# Altium schematic symbol library Comparators.SchLib: 2 symbols
Pins are listed as number, name and electrical type; pins without a type are passive.

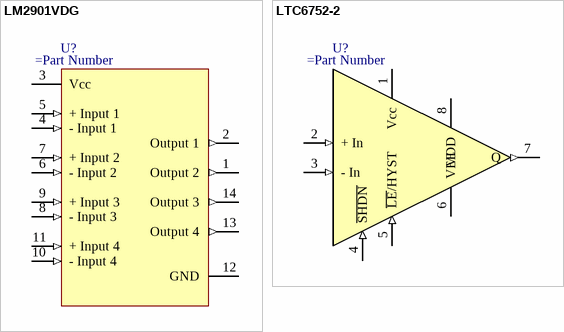
[diagram p0: symbols LM2901VDG to LTC6752-2]

## LM2901VDG
designator U?
pins: 1 Output 2 (out), 2 Output 1 (out), 3 Vcc, 4 - Input 1 (in), 5 + Input 1 (in), 6 - Input 2 (in), 7 + Input 2 (in), 8 - Input 3 (in), 9 + Input 3 (in), 10 - Input 4 (in), 11 + Input 4 (in), 12 GND, 13 Output 4 (out), 14 Output 3 (out)

## LTC6752-2
designator U?
pins: 1 Vcc, 2 + In (in), 3 - In (in), 4 ~{SHDN} (in), 5 ~{LE}/HYST (in), 6 VEE, 7 Q (out), 8 VDD